# Altium integrated library WCAP-PT5H_rev15a.intlib: 18 symbols
Pins are listed as number, name and electrical type; pins without a type are passive.

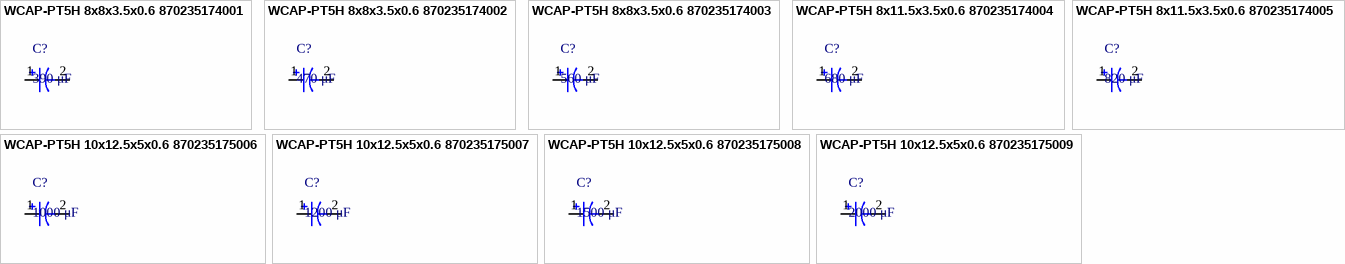
[diagram p0: symbols WCAP-PT5H 8x8x3.5x0.6 870235174001 to WCAP-PT5H 10x12.5x5x0.6 870235175009]

## WCAP-PT5H 8x8x3.5x0.6 870235174001
designator C?, comment 390 μF
WCAP-PT5H Aluminum Polymer Capacitors , 390 μF; + / - 20%; 6,3 V , 8 x 8; Manufacturer: Wurth Elektronik; partNo: 870235174001; E-mail: libraries@we-online.com; Characteristics: Aluminum Polymer Capacitors;Recommended soldering: Wave;Operating temperature: –55 °C to +105 °C;Long life product series with 5000 h;Low ESR at high frequency range;Long life: 5000 h @ +105 °C; ComponentLink1Description: Manufacturer; ComponentLink1URL: http://www.we-online.com; ComponentLink2Description: Datasheet; ComponentLink2URL: http://katalog.we-online.de/pbs/datasheet/870235174001.pdf; Created by: Karrer Zheng; Created Date: 5/13/2015; Capacitance: 390 μF; Application: Low voltage port filtering, appplid to high-end switching power supply, PC(desktop,laptop ),industrial computer, VGA card, server power, charger, TV, digital set-top box,DC-DC power module, game machine etc which consume large current with high speed circuit.
footprint WCAP-PT5H 8x8x3.5x0.6
pins: 1, 2

## WCAP-PT5H 8x8x3.5x0.6 870235174002
designator C?, comment 470 μF
WCAP-PT5H Aluminum Polymer Capacitors , 470 μF; + / - 20%; 6,3 V , 8 x 8; Manufacturer: Wurth Elektronik; partNo: 870235174002; E-mail: libraries@we-online.com; Characteristics: Aluminum Polymer Capacitors;Recommended soldering: Wave;Operating temperature: –55 °C to +105 °C;Long life product series with 5000 h;Low ESR at high frequency range;Long life: 5000 h @ +105 °C; ComponentLink1Description: Manufacturer; ComponentLink1URL: http://www.we-online.com; ComponentLink2Description: Datasheet; ComponentLink2URL: http://katalog.we-online.de/pbs/datasheet/870235174002.pdf; Created by: Karrer Zheng; Created Date: 5/13/2015; Capacitance: 470 μF; Application: Low voltage port filtering, appplid to high-end switching power supply, PC(desktop,laptop ),industrial computer, VGA card, server power, charger, TV, digital set-top box,DC-DC power module, game machine etc which consume large current with high speed circuit.
footprint WCAP-PT5H 8x8x3.5x0.6
pins: 1, 2

## WCAP-PT5H 8x8x3.5x0.6 870235174003
designator C?, comment 560 μF
WCAP-PT5H Aluminum Polymer Capacitors , 560 μF; + / - 20%; 6,3 V , 8 x 8; Manufacturer: Wurth Elektronik; partNo: 870235174003; E-mail: libraries@we-online.com; Characteristics: Aluminum Polymer Capacitors;Recommended soldering: Wave;Operating temperature: –55 °C to +105 °C;Long life product series with 5000 h;Low ESR at high frequency range;Long life: 5000 h @ +105 °C; ComponentLink1Description: Manufacturer; ComponentLink1URL: http://www.we-online.com; ComponentLink2Description: Datasheet; ComponentLink2URL: http://katalog.we-online.de/pbs/datasheet/870235174003.pdf; Created by: Karrer Zheng; Created Date: 5/13/2015; Capacitance: 560 μF; Application: Low voltage port filtering, appplid to high-end switching power supply, PC(desktop,laptop ),industrial computer, VGA card, server power, charger, TV, digital set-top box,DC-DC power module, game machine etc which consume large current with high speed circuit.
footprint WCAP-PT5H 8x8x3.5x0.6
pins: 1, 2

## WCAP-PT5H 8x11.5x3.5x0.6 870235174004
designator C?, comment 680 μF
WCAP-PT5H Aluminum Polymer Capacitors , 680 μF; + / - 20%; 6,3 V , 8 x 11,5; Manufacturer: Wurth Elektronik; partNo: 870235174004; E-mail: libraries@we-online.com; Characteristics: Aluminum Polymer Capacitors;Recommended soldering: Wave;Operating temperature: –55 °C to +105 °C;Long life product series with 5000 h;Low ESR at high frequency range;Long life: 5000 h @ +105 °C; ComponentLink1Description: Manufacturer; ComponentLink1URL: http://www.we-online.com; ComponentLink2Description: Datasheet; ComponentLink2URL: http://katalog.we-online.de/pbs/datasheet/870235174004.pdf; Created by: Karrer Zheng; Created Date: 5/13/2015; Capacitance: 680 μF; Application: Low voltage port filtering, appplid to high-end switching power supply, PC(desktop,laptop ),industrial computer, VGA card, server power, charger, TV, digital set-top box,DC-DC power module, game machine etc which consume large current with high speed circuit.
footprint WCAP-PT5H 8x11.5x3.5x0.6
pins: 1, 2

## WCAP-PT5H 8x11.5x3.5x0.6 870235174005
designator C?, comment 820 μF
WCAP-PT5H Aluminum Polymer Capacitors , 820 μF; + / - 20%; 6,3 V , 8 x 11,5; Manufacturer: Wurth Elektronik; partNo: 870235174005; E-mail: libraries@we-online.com; Characteristics: Aluminum Polymer Capacitors;Recommended soldering: Wave;Operating temperature: –55 °C to +105 °C;Long life product series with 5000 h;Low ESR at high frequency range;Long life: 5000 h @ +105 °C; ComponentLink1Description: Manufacturer; ComponentLink1URL: http://www.we-online.com; ComponentLink2Description: Datasheet; ComponentLink2URL: http://katalog.we-online.de/pbs/datasheet/870235174005.pdf; Created by: Karrer Zheng; Created Date: 5/13/2015; Capacitance: 820 μF; Application: Low voltage port filtering, appplid to high-end switching power supply, PC(desktop,laptop ),industrial computer, VGA card, server power, charger, TV, digital set-top box,DC-DC power module, game machine etc which consume large current with high speed circuit.
footprint WCAP-PT5H 8x11.5x3.5x0.6
pins: 1, 2

## WCAP-PT5H 10x12.5x5x0.6 870235175006
designator C?, comment 1000 μF
WCAP-PT5H Aluminum Polymer Capacitors , 1000 μF; + / - 20%; 6,3 V , 10 x 12,5; Manufacturer: Wurth Elektronik; partNo: 870235175006; E-mail: libraries@we-online.com; Characteristics: Aluminum Polymer Capacitors;Recommended soldering: Wave;Operating temperature: –55 °C to +105 °C;Long life product series with 5000 h;Low ESR at high frequency range;Long life: 5000 h @ +105 °C; ComponentLink1Description: Manufacturer; ComponentLink1URL: http://www.we-online.com; ComponentLink2Description: Datasheet; ComponentLink2URL: http://katalog.we-online.de/pbs/datasheet/870235175006.pdf; Created by: Karrer Zheng; Created Date: 5/13/2015; Capacitance: 1000 μF; Application: Low voltage port filtering, appplid to high-end switching power supply, PC(desktop,laptop ),industrial computer, VGA card, server power, charger, TV, digital set-top box,DC-DC power module, game machine etc which consume large current with high speed circuit.
footprint WCAP-PT5H 10x12.5x5x0.6
pins: 1, 2

## WCAP-PT5H 10x12.5x5x0.6 870235175007
designator C?, comment 1200 μF
WCAP-PT5H Aluminum Polymer Capacitors , 1200 μF; + / - 20%; 6,3 V , 10 x 12,5; Manufacturer: Wurth Elektronik; partNo: 870235175007; E-mail: libraries@we-online.com; Characteristics: Aluminum Polymer Capacitors;Recommended soldering: Wave;Operating temperature: –55 °C to +105 °C;Long life product series with 5000 h;Low ESR at high frequency range;Long life: 5000 h @ +105 °C; ComponentLink1Description: Manufacturer; ComponentLink1URL: http://www.we-online.com; ComponentLink2Description: Datasheet; ComponentLink2URL: http://katalog.we-online.de/pbs/datasheet/870235175007.pdf; Created by: Karrer Zheng; Created Date: 5/13/2015; Capacitance: 1200 μF; Application: Low voltage port filtering, appplid to high-end switching power supply, PC(desktop,laptop ),industrial computer, VGA card, server power, charger, TV, digital set-top box,DC-DC power module, game machine etc which consume large current with high speed circuit.
footprint WCAP-PT5H 10x12.5x5x0.6
pins: 1, 2

## WCAP-PT5H 10x12.5x5x0.6 870235175008
designator C?, comment 1500 μF
WCAP-PT5H Aluminum Polymer Capacitors , 1500 μF; + / - 20%; 6,3 V , 10 x 12,5; Manufacturer: Wurth Elektronik; partNo: 870235175008; E-mail: libraries@we-online.com; Characteristics: Aluminum Polymer Capacitors;Recommended soldering: Wave;Operating temperature: –55 °C to +105 °C;Long life product series with 5000 h;Low ESR at high frequency range;Long life: 5000 h @ +105 °C; ComponentLink1Description: Manufacturer; ComponentLink1URL: http://www.we-online.com; ComponentLink2Description: Datasheet; ComponentLink2URL: http://katalog.we-online.de/pbs/datasheet/870235175008.pdf; Created by: Karrer Zheng; Created Date: 5/13/2015; Capacitance: 1500 μF; Application: Low voltage port filtering, appplid to high-end switching power supply, PC(desktop,laptop ),industrial computer, VGA card, server power, charger, TV, digital set-top box,DC-DC power module, game machine etc which consume large current with high speed circuit.
footprint WCAP-PT5H 10x12.5x5x0.6
pins: 1, 2

## WCAP-PT5H 10x12.5x5x0.6 870235175009
designator C?, comment 2000 μF
WCAP-PT5H Aluminum Polymer Capacitors , 2000 μF; + / - 20%; 6,3 V , 10 x 12,5; Manufacturer: Wurth Elektronik; partNo: 870235175009; E-mail: libraries@we-online.com; Characteristics: Aluminum Polymer Capacitors;Recommended soldering: Wave;Operating temperature: –55 °C to +105 °C;Long life product series with 5000 h;Low ESR at high frequency range;Long life: 5000 h @ +105 °C; ComponentLink1Description: Manufacturer; ComponentLink1URL: http://www.we-online.com; ComponentLink2Description: Datasheet; ComponentLink2URL: http://katalog.we-online.de/pbs/datasheet/870235175009.pdf; Created by: Karrer Zheng; Created Date: 5/13/2015; Capacitance: 2000 μF; Application: Low voltage port filtering, appplid to high-end switching power supply, PC(desktop,laptop ),industrial computer, VGA card, server power, charger, TV, digital set-top box,DC-DC power module, game machine etc which consume large current with high speed circuit.
footprint WCAP-PT5H 10x12.5x5x0.6
pins: 1, 2


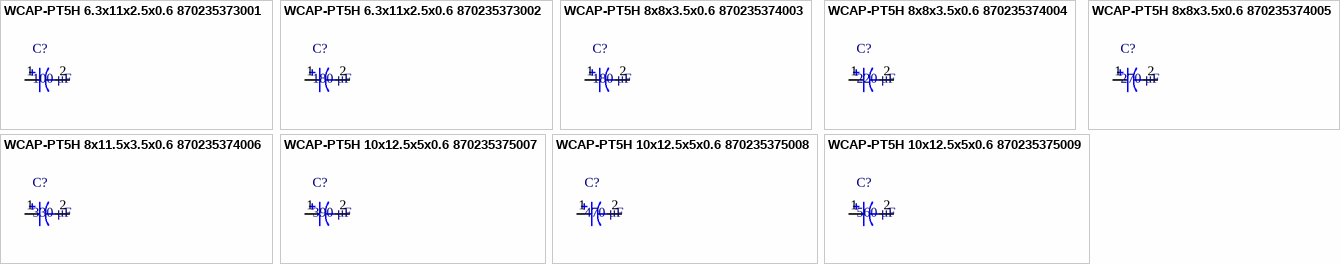
[diagram p1: symbols WCAP-PT5H 6.3x11x2.5x0.6 870235373001 to WCAP-PT5H 10x12.5x5x0.6 870235375009]

## WCAP-PT5H 6.3x11x2.5x0.6 870235373001
designator C?, comment 100 μF
WCAP-PT5H Aluminum Polymer Capacitors , 100 μF; + / - 20%; 16 V , 6,3 x 11; Manufacturer: Wurth Elektronik; partNo: 870235373001; E-mail: libraries@we-online.com; Characteristics: Aluminum Polymer Capacitors;Recommended soldering: Wave;Operating temperature: –55 °C to +105 °C;Long life product series with 5000 h;Low ESR at high frequency range;Long life: 5000 h @ +105 °C; ComponentLink1Description: Manufacturer; ComponentLink1URL: http://www.we-online.com; ComponentLink2Description: Datasheet; ComponentLink2URL: http://katalog.we-online.de/pbs/datasheet/870235373001.pdf; Created by: Karrer Zheng; Created Date: 5/13/2015; Capacitance: 100 μF; Application: Low voltage port filtering, appplid to high-end switching power supply, PC(desktop,laptop ),industrial computer, VGA card, server power, charger, TV, digital set-top box,DC-DC power module, game machine etc which consume large current with high speed circuit.
footprint WCAP-PT5H 6.3x11x2.5x0.6
pins: 1, 2

## WCAP-PT5H 6.3x11x2.5x0.6 870235373002
designator C?, comment 180 μF
WCAP-PT5H Aluminum Polymer Capacitors , 180 μF; + / - 20%; 16 V , 6,3 x 11; Manufacturer: Wurth Elektronik; partNo: 870235373002; E-mail: libraries@we-online.com; Characteristics: Aluminum Polymer Capacitors;Recommended soldering: Wave;Operating temperature: –55 °C to +105 °C;Long life product series with 5000 h;Low ESR at high frequency range;Long life: 5000 h @ +105 °C; ComponentLink1Description: Manufacturer; ComponentLink1URL: http://www.we-online.com; ComponentLink2Description: Datasheet; ComponentLink2URL: http://katalog.we-online.de/pbs/datasheet/870235373002.pdf; Created by: Karrer Zheng; Created Date: 5/13/2015; Capacitance: 180 μF; Application: Low voltage port filtering, appplid to high-end switching power supply, PC(desktop,laptop ),industrial computer, VGA card, server power, charger, TV, digital set-top box,DC-DC power module, game machine etc which consume large current with high speed circuit.
footprint WCAP-PT5H 6.3x11x2.5x0.6
pins: 1, 2

## WCAP-PT5H 8x8x3.5x0.6 870235374003
designator C?, comment 180 μF
WCAP-PT5H Aluminum Polymer Capacitors , 180 μF; + / - 20%; 16 V , 8 x 8; Manufacturer: Wurth Elektronik; partNo: 870235374003; E-mail: libraries@we-online.com; Characteristics: Aluminum Polymer Capacitors;Recommended soldering: Wave;Operating temperature: –55 °C to +105 °C;Long life product series with 5000 h;Low ESR at high frequency range;Long life: 5000 h @ +105 °C; ComponentLink1Description: Manufacturer; ComponentLink1URL: http://www.we-online.com; ComponentLink2Description: Datasheet; ComponentLink2URL: http://katalog.we-online.de/pbs/datasheet/870235374003.pdf; Created by: Karrer Zheng; Created Date: 5/13/2015; Capacitance: 180 μF; Application: Low voltage port filtering, appplid to high-end switching power supply, PC(desktop,laptop ),industrial computer, VGA card, server power, charger, TV, digital set-top box,DC-DC power module, game machine etc which consume large current with high speed circuit.
footprint WCAP-PT5H 8x8x3.5x0.6
pins: 1, 2

## WCAP-PT5H 8x8x3.5x0.6 870235374004
designator C?, comment 220 μF
WCAP-PT5H Aluminum Polymer Capacitors , 220 μF; + / - 20%; 16 V , 8 x 8; Manufacturer: Wurth Elektronik; partNo: 870235374004; E-mail: libraries@we-online.com; Characteristics: Aluminum Polymer Capacitors;Recommended soldering: Wave;Operating temperature: –55 °C to +105 °C;Long life product series with 5000 h;Low ESR at high frequency range;Long life: 5000 h @ +105 °C; ComponentLink1Description: Manufacturer; ComponentLink1URL: http://www.we-online.com; ComponentLink2Description: Datasheet; ComponentLink2URL: http://katalog.we-online.de/pbs/datasheet/870235374004.pdf; Created by: Karrer Zheng; Created Date: 5/13/2015; Capacitance: 220 μF; Application: Low voltage port filtering, appplid to high-end switching power supply, PC(desktop,laptop ),industrial computer, VGA card, server power, charger, TV, digital set-top box,DC-DC power module, game machine etc which consume large current with high speed circuit.
footprint WCAP-PT5H 8x8x3.5x0.6
pins: 1, 2

## WCAP-PT5H 8x8x3.5x0.6 870235374005
designator C?, comment 270 μF
WCAP-PT5H Aluminum Polymer Capacitors , 270 μF; + / - 20%; 16 V , 8 x 8; Manufacturer: Wurth Elektronik; partNo: 870235374005; E-mail: libraries@we-online.com; Characteristics: Aluminum Polymer Capacitors;Recommended soldering: Wave;Operating temperature: –55 °C to +105 °C;Long life product series with 5000 h;Low ESR at high frequency range;Long life: 5000 h @ +105 °C; ComponentLink1Description: Manufacturer; ComponentLink1URL: http://www.we-online.com; ComponentLink2Description: Datasheet; ComponentLink2URL: http://katalog.we-online.de/pbs/datasheet/870235374005.pdf; Created by: Karrer Zheng; Created Date: 5/13/2015; Capacitance: 270 μF; Application: Low voltage port filtering, appplid to high-end switching power supply, PC(desktop,laptop ),industrial computer, VGA card, server power, charger, TV, digital set-top box,DC-DC power module, game machine etc which consume large current with high speed circuit.
footprint WCAP-PT5H 8x8x3.5x0.6
pins: 1, 2

## WCAP-PT5H 8x11.5x3.5x0.6 870235374006
designator C?, comment 330 μF
WCAP-PT5H Aluminum Polymer Capacitors , 330 μF; + / - 20%; 16 V , 8 x 11,5; Manufacturer: Wurth Elektronik; partNo: 870235374006; E-mail: libraries@we-online.com; Characteristics: Aluminum Polymer Capacitors;Recommended soldering: Wave;Operating temperature: –55 °C to +105 °C;Long life product series with 5000 h;Low ESR at high frequency range;Long life: 5000 h @ +105 °C; ComponentLink1Description: Manufacturer; ComponentLink1URL: http://www.we-online.com; ComponentLink2Description: Datasheet; ComponentLink2URL: http://katalog.we-online.de/pbs/datasheet/870235374006.pdf; Created by: Karrer Zheng; Created Date: 5/13/2015; Capacitance: 330 μF; Application: Low voltage port filtering, appplid to high-end switching power supply, PC(desktop,laptop ),industrial computer, VGA card, server power, charger, TV, digital set-top box,DC-DC power module, game machine etc which consume large current with high speed circuit.
footprint WCAP-PT5H 8x11.5x3.5x0.6
pins: 1, 2

## WCAP-PT5H 10x12.5x5x0.6 870235375007
designator C?, comment 390 μF
WCAP-PT5H Aluminum Polymer Capacitors , 390 μF; + / - 20%; 16 V , 10 x 12,5; Manufacturer: Wurth Elektronik; partNo: 870235375007; E-mail: libraries@we-online.com; Characteristics: Aluminum Polymer Capacitors;Recommended soldering: Wave;Operating temperature: –55 °C to +105 °C;Long life product series with 5000 h;Low ESR at high frequency range;Long life: 5000 h @ +105 °C; ComponentLink1Description: Manufacturer; ComponentLink1URL: http://www.we-online.com; ComponentLink2Description: Datasheet; ComponentLink2URL: http://katalog.we-online.de/pbs/datasheet/870235375007.pdf; Created by: Karrer Zheng; Created Date: 5/13/2015; Capacitance: 390 μF; Application: Low voltage port filtering, appplid to high-end switching power supply, PC(desktop,laptop ),industrial computer, VGA card, server power, charger, TV, digital set-top box,DC-DC power module, game machine etc which consume large current with high speed circuit.
footprint WCAP-PT5H 10x12.5x5x0.6
pins: 1, 2

## WCAP-PT5H 10x12.5x5x0.6 870235375008
designator C?, comment 470 μF
WCAP-PT5H Aluminum Polymer Capacitors , 470 μF; + / - 20%; 16 V , 10 x 12,5; Manufacturer: Wurth Elektronik; partNo: 870235375008; E-mail: libraries@we-online.com; Characteristics: Aluminum Polymer Capacitors;Recommended soldering: Wave;Operating temperature: –55 °C to +105 °C;Long life product series with 5000 h;Low ESR at high frequency range;Long life: 5000 h @ +105 °C; ComponentLink1Description: Manufacturer; ComponentLink1URL: http://www.we-online.com; ComponentLink2Description: Datasheet; ComponentLink2URL: http://katalog.we-online.de/pbs/datasheet/870235375008.pdf; Created by: Karrer Zheng; Created Date: 5/13/2015; Capacitance: 470 μF; Application: Low voltage port filtering, appplid to high-end switching power supply, PC(desktop,laptop ),industrial computer, VGA card, server power, charger, TV, digital set-top box,DC-DC power module, game machine etc which consume large current with high speed circuit.
footprint WCAP-PT5H 10x12.5x5x0.6
pins: 1, 2

## WCAP-PT5H 10x12.5x5x0.6 870235375009
designator C?, comment 560 μF
WCAP-PT5H Aluminum Polymer Capacitors , 560 μF; + / - 20%; 16 V , 10 x 12,5; Manufacturer: Wurth Elektronik; partNo: 870235375009; E-mail: libraries@we-online.com; Characteristics: Aluminum Polymer Capacitors;Recommended soldering: Wave;Operating temperature: –55 °C to +105 °C;Long life product series with 5000 h;Low ESR at high frequency range;Long life: 5000 h @ +105 °C; ComponentLink1Description: Manufacturer; ComponentLink1URL: http://www.we-online.com; ComponentLink2Description: Datasheet; ComponentLink2URL: http://katalog.we-online.de/pbs/datasheet/870235375009.pdf; Created by: Karrer Zheng; Created Date: 5/13/2015; Capacitance: 560 μF; Application: Low voltage port filtering, appplid to high-end switching power supply, PC(desktop,laptop ),industrial computer, VGA card, server power, charger, TV, digital set-top box,DC-DC power module, game machine etc which consume large current with high speed circuit.
footprint WCAP-PT5H 10x12.5x5x0.6
pins: 1, 2